# Altium schematic symbol library SchlibLukas.SchLib: 19 symbols
Pins are listed as number, name and electrical type; pins without a type are passive.

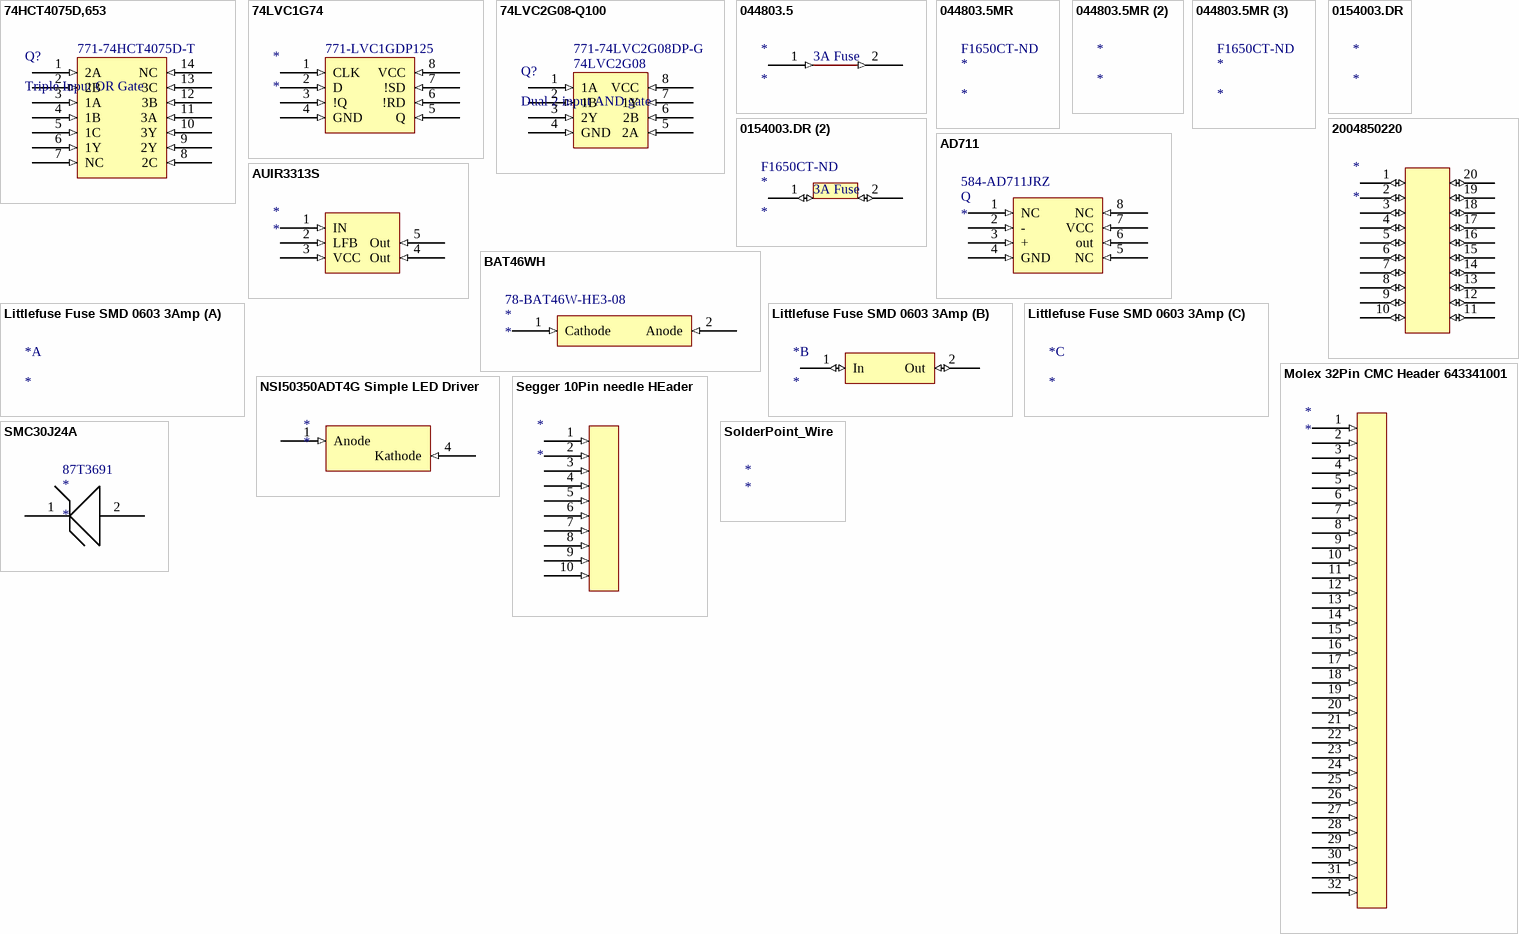
[diagram p0: symbols 74HCT4075D,653 to SolderPoint_Wire]

## 74HCT4075D,653
designator Q?, comment Triple Input OR Gate  Supplier Part Number 1: 771-74HCT4075D-T
Supplier 1: Mouser
footprint SOIC14; SOIC127P600X175-14N (SOIC, 14-Leads, Body 8,65x3,90mm, Pitch 1,27mm, IPC Medium Density)
pins: 1 2A (in), 2 2B (in), 3 1A (in), 4 1B (in), 5 1C (in), 6 1Y (in), 7 NC (in), 8 2C (in), 9 2Y (in), 10 3Y (in), 11 3A (in), 12 3B (in), 13 3C (in), 14 NC (in)

## 74LVC1G74
designator *  Supplier Part Number 1: 771-LVC1GDP125
Supplier 1: Mouser
footprint TSSOP8; TSOP65P400X110-8N (TSOP, 8-Leads, Body 3,00x3,00mm, Pitch 0,65mm, IPC Medium Density)
pins: 1 CLK (in), 2 D (in), 3 !Q (in), 4 GND (in), 5 Q (in), 6 !RD (in), 7 !SD (in), 8 VCC (in)

## 74LVC2G08-Q100
designator Q?, comment Dual 2 input AND gate  Supplier Part Number 1: 771-74LVC2G08DP-G
Supplier 1: Mouser
footprint TSSOP8; TSOP65P400X110-8N (TSOP, 8-Leads, Body 3,00x3,00mm, Pitch 0,65mm, IPC Medium Density)
pins: 1 1A (in), 2 1B (in), 3 2Y (in), 4 GND (in), 5 2A (in), 6 2B (in), 7 1Y (in), 8 VCC (in)
text: 74LVC2G08

## 044803.5
designator *
footprint CAPC6228X29L (Chip Capacitor, 2-Leads, Body 6,20x2,80mm, IPC High Density)
pins: 1 (in), 2 (out)
text: 3A Fuse

## 044803.5MR
designator *  Supplier Part Number 1: F1650CT-ND
FUSE BRD MNT 3.5A 125VAC/VDC SMD; Manufacturer 1: Littelfuse; Manufacturer Part Number 1: 044803.5MR; Body Material: Ceramic; Voltage Rating: 125V; Resistance: 21mR; Fuse Type: Board Mount (Cartridge Style Excluded); Approvals: UL,CSA,PSE; Supplier 1: Digi-Key; RoHS: Yes; Category: Fuses; Stock 1: 448; Pricing 1: 1=1,37000, 5=1,33000, 10=1,24400, 50=1,02980, 100=0,85820, 250=0,83676, 500=0,70804 (USD); Mount: Surface Mount; Case/Package: SMD/SMT; Housing Material: Ceramic; Min Operating Temperature: -55°C; Max Operating Temperature: 125°C; Packaging: Tape and Reel; Voltage Rating (AC): 125V; Voltage Rating (DC): 125V; Termination: SMD/SMT; DC Cold Resistance: 21mR; Fuse Current: 3.5A; Current Rating: 3.5A; Package Quantity: 1000; Length: 6.1mm; Height: 0.106inch; Depth: 2.69mm; Width: 2.69mm; Lead Free: Lead Free; REACH SVHC: Unknown; ComponentLink1URL: https://datasheet.ciiva.com/1549/48484-1549541.pdf?src-supplier=Element14; ComponentLink1Description: https://datasheet.ciiva.com/1549/48484-1549541.pdf?src-supplier=Element14

## 044803.5MR (2)
designator *
FUSE BRD MNT 3.5A 125VAC/VDC SMD; Manufacturer 1: Littelfuse; Manufacturer Part Number 1: 044803.5MR; Body Material: Ceramic; Voltage Rating: 125V; Resistance: 21mR; Fuse Type: Board Mount (Cartridge Style Excluded); Approvals: UL,CSA,PSE; Supplier 1: Digi-Key; RoHS: Yes; Category: Fuses; Stock 1: 448; Pricing 1: 1=1,37000, 5=1,33000, 10=1,24400, 50=1,02980, 100=0,85820, 250=0,83676, 500=0,70804 (USD); Mount: Surface Mount; Case/Package: SMD/SMT; Housing Material: Ceramic; Min Operating Temperature: -55°C; Max Operating Temperature: 125°C; Packaging: Tape and Reel; Voltage Rating (AC): 125V; Voltage Rating (DC): 125V; Termination: SMD/SMT; DC Cold Resistance: 21mR; Fuse Current: 3.5A; Current Rating: 3.5A; Package Quantity: 1000; Length: 6.1mm; Height: 0.106inch; Depth: 2.69mm; Width: 2.69mm; Lead Free: Lead Free; REACH SVHC: Unknown; ComponentLink1URL: https://datasheet.ciiva.com/1549/48484-1549541.pdf?src-supplier=Element14; ComponentLink1Description: https://datasheet.ciiva.com/1549/48484-1549541.pdf?src-supplier=Element14

## 044803.5MR (3)
designator *  Supplier Part Number 1: F1650CT-ND
FUSE BRD MNT 3.5A 125VAC/VDC SMD; Manufacturer 1: Littelfuse; Manufacturer Part Number 1: 044803.5MR; Body Material: Ceramic; Voltage Rating: 125V; Resistance: 21mR; Fuse Type: Board Mount (Cartridge Style Excluded); Approvals: UL,CSA,PSE; Supplier 1: Digi-Key; RoHS: Yes; Category: Fuses; Stock 1: 448; Pricing 1: 1=1,37000, 5=1,33000, 10=1,24400, 50=1,02980, 100=0,85820, 250=0,83676, 500=0,70804 (USD); Mount: Surface Mount; Case/Package: SMD/SMT; Housing Material: Ceramic; Min Operating Temperature: -55°C; Max Operating Temperature: 125°C; Packaging: Tape and Reel; Voltage Rating (AC): 125V; Voltage Rating (DC): 125V; Termination: SMD/SMT; DC Cold Resistance: 21mR; Fuse Current: 3.5A; Current Rating: 3.5A; Package Quantity: 1000; Length: 6.1mm; Height: 0.106inch; Depth: 2.69mm; Width: 2.69mm; Lead Free: Lead Free; REACH SVHC: Unknown; ComponentLink1URL: https://datasheet.ciiva.com/1549/48484-1549541.pdf?src-supplier=Element14; ComponentLink1Description: https://datasheet.ciiva.com/1549/48484-1549541.pdf?src-supplier=Element14

## 0154003.DR
designator *

## 0154003.DR (2)
designator *  Supplier Part Number 2: F1650CT-ND
FUSE BRD MNT 3.5A 125VAC/VDC SMD; Manufacturer 1: Littelfuse; Manufacturer Part Number 1: 0154003.DR; Body Material: Thermoplastic; Fuse Type: Board Mount (Cartridge Style Excluded); DC Cold Resistance: 22.7mR; Power Dissipation: 125W; Current Rating: 3A; Voltage Rating (AC): 125V; Approvals: UL,PSE; Resistance: 21mR; Supplier 1: Farnell; RoHS: Yes; Category: Fuses; Stock 1: 1653; Pricing 1: 1=2,24000, 50=1,71000, 100=1,29000, 250=1,17000, 500=1,05000, 1500=1,03000, 7500=1,01000 (EUR); Mount: Surface Mount,Holder; Case/Package: SMD/SMT; Number of Pins: 2; Color: White; Terminal Material: Copper; Min Operating Temperature: -55°C; Max Operating Temperature: 125°C; Packaging: Tape and Reel; Voltage Rating (DC): 125V; Package Quantity: 1500; Working Voltage: 125V; Fuse Current: 3A; Voltage Rating: 125V; Length: 9.73mm; Height: 3.81mm; Depth: 5.03mm; Width: 5.03mm; Radiation Hardening: No; Lead Free: Lead Free; REACH SVHC: Unknown; Flammability Rating: UL94 V-0; ComponentLink1URL: https://datasheet.ciiva.com/29697/1708924-29697492.pdf?src-supplier=Jameco; ComponentLink1Description: https://datasheet.ciiva.com/29697/1708924-29697492.pdf?src-supplier=Jameco; ComponentLink2URL: https://datasheet.ciiva.com/14102/aa154xxx-data-e-14102960.pdf?src-supplier=Distrelec; ComponentLink2Description: https://datasheet.ciiva.com/14102/aa154xxx-data-e-14102960.pdf?src-supplier=Distrelec; ComponentLink3URL: https://datasheet.ciiva.com/1268/154-1268659.pdf?src-supplier=Element14; ComponentLink3Description: https://datasheet.ciiva.com/1268/154-1268659.pdf?src-supplier=Element14; ComponentLink4URL: https://datasheet.ciiva.com/28499/88932-28499727.pdf?src-supplier=Element14; ComponentLink4Description: https://datasheet.ciiva.com/28499/88932-28499727.pdf?src-supplier=Element14; Supplier Part Number 1: 9943650; Supplier 2: Digi-Key; Manufacturer 2: Littelfuse; Manufacturer Part Number 2: 044803.5MR; Stock 2: 448; Pricing 2: 1=1,37000, 5=1,33000, 10=1,24400, 50=1,02980, 100=0,85820, 250=0,83676, 500=0,70804 (USD); Housing Material: Ceramic; Termination: SMD/SMT; ComponentLink5URL: https://datasheet.ciiva.com/1549/48484-1549541.pdf?src-supplier=Element14; ComponentLink5Description: https://datasheet.ciiva.com/1549/48484-1549541.pdf?src-supplier=Element14
footprint Littlefuse 0603 Package
pins: 1 (io), 2 (io)
text: 3A Fuse

## 2004850220
designator *
pins: 1 (io), 2 (io), 3 (io), 4 (io), 5 (io), 6 (io), 7 (io), 8 (io), 9 (io), 10 (io), 11 (io), 12 (io), 13 (io), 14 (io), 15 (io), 16 (io), 17 (io), 18 (io), 19 (io), 20 (io)

## AD711
designator Q  Supplier Part Number 1: 584-AD711JRZ
Supplier 1: Mouser
footprint SOIC8; SOIC127P600X175-8N (SOIC, 8-Leads, Body 4,90x3,90mm, Pitch 1,27mm, IPC Medium Density)
pins: 1 NC (in), 2 - (in), 3 + (in), 4 GND (in), 5 NC (in), 6 out (in), 7 VCC (in), 8 NC (in)

## AUIR3313S
designator *
footprint D2PAK5 ;DPAK228P1524X483-5N (D2-PAK, 5-Pads, Body 7,93x8,70mm (max), IPC Medium Density)
pins: 1 IN (in), 2 LFB (in), 3 VCC (in), 4 Out (in), 5 Out (in)

## BAT46WH
designator *  Supplier Part Number 1: 78-BAT46W-HE3-08
Supplier 1: Mouser
footprint DIOM2715X18N (Molded Diode, 2-Leads, Body 2,70x1,55mm, IPC Medium Density)
pins: 1 Cathode (in), 2 Anode (in)

## Littlefuse Fuse SMD 0603 3Amp
designator *
part B pins: 1 In (io), 2 Out (io)

## Molex 32Pin CMC Header 643341001
designator *
footprint Molex32Pin CMC Header 643341001
pins: 1 (in), 2 (in), 3 (in), 4 (in), 5 (in), 6 (in), 7 (in), 8 (in), 9 (in), 10 (in), 11 (in), 12 (in), 13 (in), 14 (in), 15 (in), 16 (in), 17 (in), 18 (in), 19 (in), 20 (in), 21 (in), 22 (in), 23 (in), 24 (in), 25 (in), 26 (in), 27 (in), 28 (in), 29 (in), 30 (in), 31 (in), 32 (in)

## NSI50350ADT4G Simple LED Driver
designator *
footprint DPAK229P990X238-3N (D-PAK, 3-Pads, Body 6,21x6,73mm (max), IPC Medium Density)
pins: 1 Anode (in), 4 Kathode (in)

## Segger 10Pin needle HEader
designator *
footprint JTAG Needle Header
pins: 1 (in), 2 (in), 3 (in), 4 (in), 5 (in), 6 (in), 7 (in), 8 (in), 9 (in), 10 (in)

## SMC30J24A
designator *  Supplier Part Number 1: 87T3691
3000 W TVS in SMC package; Manufacturer: STMicroelectronics; Manufacturer Part Number: SMC30J24A; Direction: Unidirectional; Number of Unidirectional Channels: 1; Reverse Standoff Voltage: 24V; Min Breakdown Voltage: 26.7V; Clamping Voltage: 38.9V; Peak Pulse Power: 3kW; Power Line Protection: No; Peak Pulse Current: 77A; Diode Type: ZENER; Supplier 1: Newark; RoHS: Yes; Category: Diodes; Pricing 1: 2500=0,61100 (USD); Mount: Surface Mount; Case/Package: SMC; Number of Pins: 2; Min Operating Temperature: -55°C; Max Operating Temperature: 175°C; Packaging: Tape and Reel; Package Quantity: 2500; Polarity: Unidirectional; Working Voltage: 24V; Max Power Dissipation: 3kW; Breakdown Voltage: 26.7V; Resistor Type: Zener; Series: SMC30J, TRANSIL™; Radiation Hardening: No; REACH SVHC: No SVHC; Lead Free: Lead Free; RoHS Compliant: Yes; ComponentLink1URL: https://datasheet.ciiva.com/339/dm00035134-339433.pdf?src-supplier=Digi-Key; ComponentLink1Description: https://datasheet.ciiva.com/339/dm00035134-339433.pdf?src-supplier=Digi-Key; ComponentLink2URL: https://datasheet.ciiva.com/339/dm00035134-339434.pdf?src-supplier=Digi-Key; ComponentLink2Description: https://datasheet.ciiva.com/339/dm00035134-339434.pdf?src-supplier=Digi-Key; ComponentLink3URL: https://datasheet.ciiva.com/339/dm00035134-339435.pdf?src-supplier=Digi-Key; ComponentLink3Description: https://datasheet.ciiva.com/339/dm00035134-339435.pdf?src-supplier=Digi-Key
footprint JEDEC DO-214AB (Molded Diode, 2-Leads, Body 6,88x5,90mm, IPC Medium Density)
pins: 1, 2

## SolderPoint_Wire
designator *